# EAGLE library part OPA4188_PACKAGED (library STM_Library)
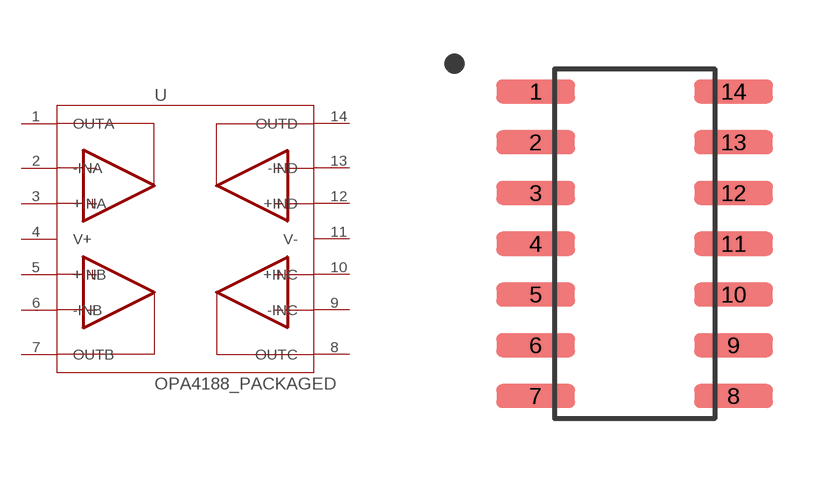
[diagram p0: symbol with the pads of SOIC127P600X175-14N; footprint SOIC127P600X175-14N]

Designator prefix -

## OPA4188_PACKAGED  [SOIC127P600X175-14N]
1  OUTA
2  -INA
3  +INA
4  V+
5  +INB
6  -INB
7  OUTB
8  OUTC
9  -INC
10  +INC
11  V-
12  +IND
13  -IND
14  OUTD

## Footprint SOIC127P600X175-14N (pad centres in mm)
smd 1.97 x 0.6: 1 -2.475,3.81; 2 -2.475,2.54; 3 -2.475,1.27; 4 -2.475,0; 5 -2.475,-1.27; 6 -2.475,-2.54; 7 -2.475,-3.81; 8 2.475,-3.81; 9 2.475,-2.54; 10 2.475,-1.27; 11 2.475,0; 12 2.475,1.27; 13 2.475,2.54; 14 2.475,3.81